# Altium schematic symbol library Schlib1.SchLib: 4 symbols
Pins are listed as number, name and electrical type; pins without a type are passive.

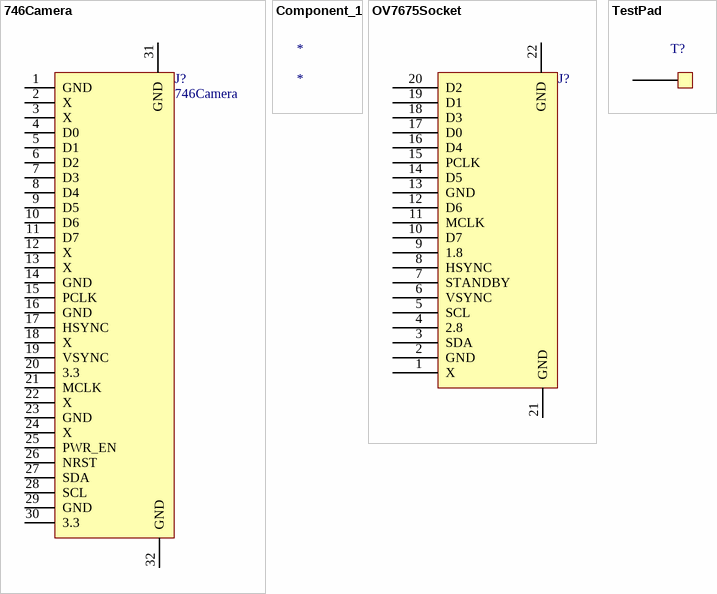
[diagram p0: symbols 746Camera to TestPad]

## 746Camera
designator J?
footprint FFC/SM0.5-2H30
pins: 1 GND, 2 X, 3 X, 4 D0, 5 D1, 6 D2, 7 D3, 8 D4, 9 D5, 10 D6, 11 D7, 12 X, 13 X, 14 GND, 15 PCLK, 16 GND, 17 HSYNC, 18 X, 19 VSYNC, 20 3.3, 21 MCLK, 22 X, 23 GND, 24 X, 25 PWR_EN, 26 NRST, 27 SDA, 28 SCL, 29 GND, 30 3.3, 31 GND, 32 GND

## Component_1
designator *

## OV7675Socket
designator J?  (value not drawn)
footprint FFC/SM0.5-2H20
pins: 1 X, 2 GND, 3 SDA, 4 2.8, 5 SCL, 6 VSYNC, 7 STANDBY, 8 HSYNC, 9 1.8, 10 D7, 11 MCLK, 12 D6, 13 GND, 14 D5, 15 PCLK, 16 D4, 17 D0, 18 D3, 19 D1, 20 D2, 21 GND, 22 GND

## TestPad
designator T?  (value not drawn)
footprint PAD.05X.05
pins: 1